# EAGLE library part MCP2004 (library myradio)
LIN Bus Transceiver
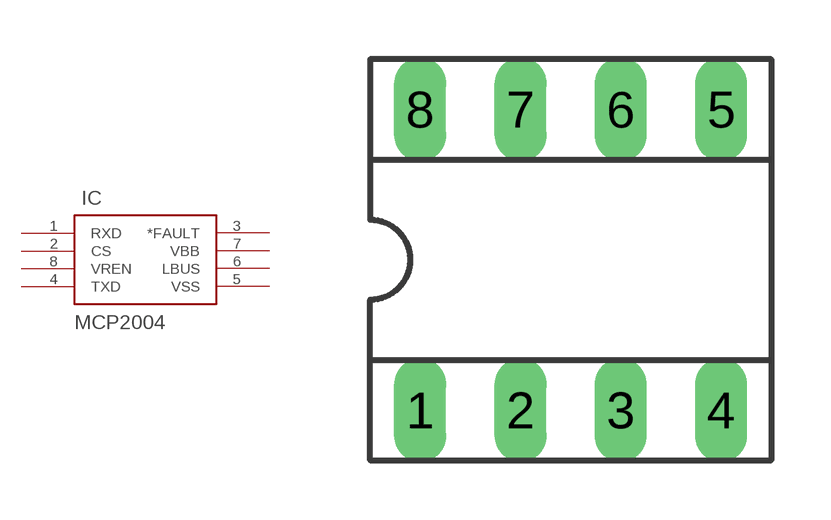
[diagram p1: symbol with the pads of SOCKET-08; footprint SOCKET-08]

Designator prefix IC

## MCP2004  [SOCKET-08]
1  RXD  out
2  CS  in
3  *FAULT
4  TXD  in
5  VSS  pwr
6  LBUS
7  VBB  pwr
8  VREN  out

## Footprint SOCKET-08 (pad centres in mm)
Dual In Line Socket
drill 0.813 long: 1 -3.81,-3.81; 2 -1.27,-3.81; 3 1.27,-3.81; 4 3.81,-3.81; 5 3.81,3.81; 6 1.27,3.81; 7 -1.27,3.81; 8 -3.81,3.81